# EAGLE library part LED64MATRIX2X2IN (library LED64MATRIX2x2IN)
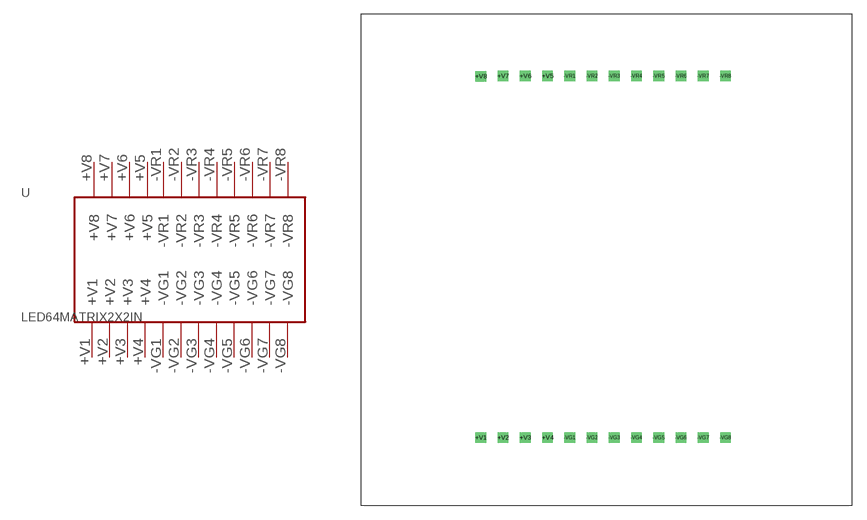
[diagram p0: symbol with the pads of LED64MATRIX2X2IN; footprint LED64MATRIX2X2IN]

Designator prefix -

## LED64MATRIX2X2IN  [LED64MATRIX2X2IN]
+V1  +V1
+V2  +V2
+V3  +V3
+V4  +V4
+V5  +V5
+V6  +V6
+V7  +V7
+V8  +V8
-VG1  -VG1
-VG2  -VG2
-VG3  -VG3
-VG4  -VG4
-VG5  -VG5
-VG6  -VG6
-VG7  -VG7
-VG8  -VG8
-VR1  -VR1
-VR2  -VR2
-VR3  -VR3
-VR4  -VR4
-VR5  -VR5
-VR6  -VR6
-VR7  -VR7
-VR8  -VR8

## Footprint LED64MATRIX2X2IN (pad centres in mm)
drill 0.6 square: +V1 -13,-18.42; +V2 -10.7,-18.42; +V3 -8.4,-18.42; +V4 -6.1,-18.42; +V5 -6.1,19.03; +V6 -8.4,19.03; +V7 -10.7,19.03; +V8 -13,19; -VG1 -3.8,-18.42; -VG2 -1.5,-18.42; -VG3 0.8,-18.42; -VG4 3.1,-18.42; -VG5 5.4,-18.42; -VG6 7.7,-18.42; -VG7 10,-18.42; -VG8 12.3,-18.42; -VR1 -3.8,19.03; -VR2 -1.5,19.03; -VR3 0.8,19.03; -VR4 3.1,19.03; -VR5 5.4,19.03; -VR6 7.7,19.03; -VR7 10,19.03; -VR8 12.3,19.03